# EAGLE library part LM3578 (library Traficon)
Buck - Boost - Buckboost regulator Farnell 953-775
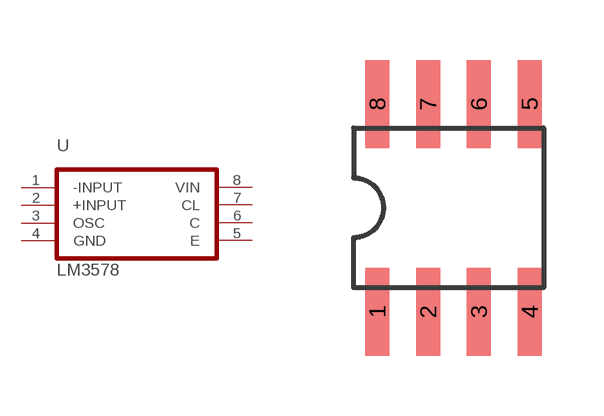
[diagram p70: symbol with the pads of SOIC8; footprint SOIC8]

Designator prefix U

## LM3578  [SOIC8]
1  -INPUT
2  +INPUT
3  OSC
4  GND
5  E
6  C
7  CL
8  VIN

## Footprint SOIC8 (pad centres in mm)
Small Outline IC
smd 0.6 x 2.2: 1 -1.905,-2.6; 2 -0.635,-2.6; 3 0.635,-2.6; 4 1.905,-2.6; 5 1.905,2.6; 6 0.635,2.6; 7 -0.635,2.6; 8 -1.905,2.6